# Altium footprint library EIGHT_29.PcbLib: 57 footprints (part 4 of 4)
Each footprint in its own frame and in the unit in brackets; x right, y up, seen from the top. Pads: shape width x height; smd on the part's side, far side on the other; paste and mask are expansions set on the pad; w line width, h text height; cw(c..) or ccw(c..) is an arc to the next point about the centre after c.
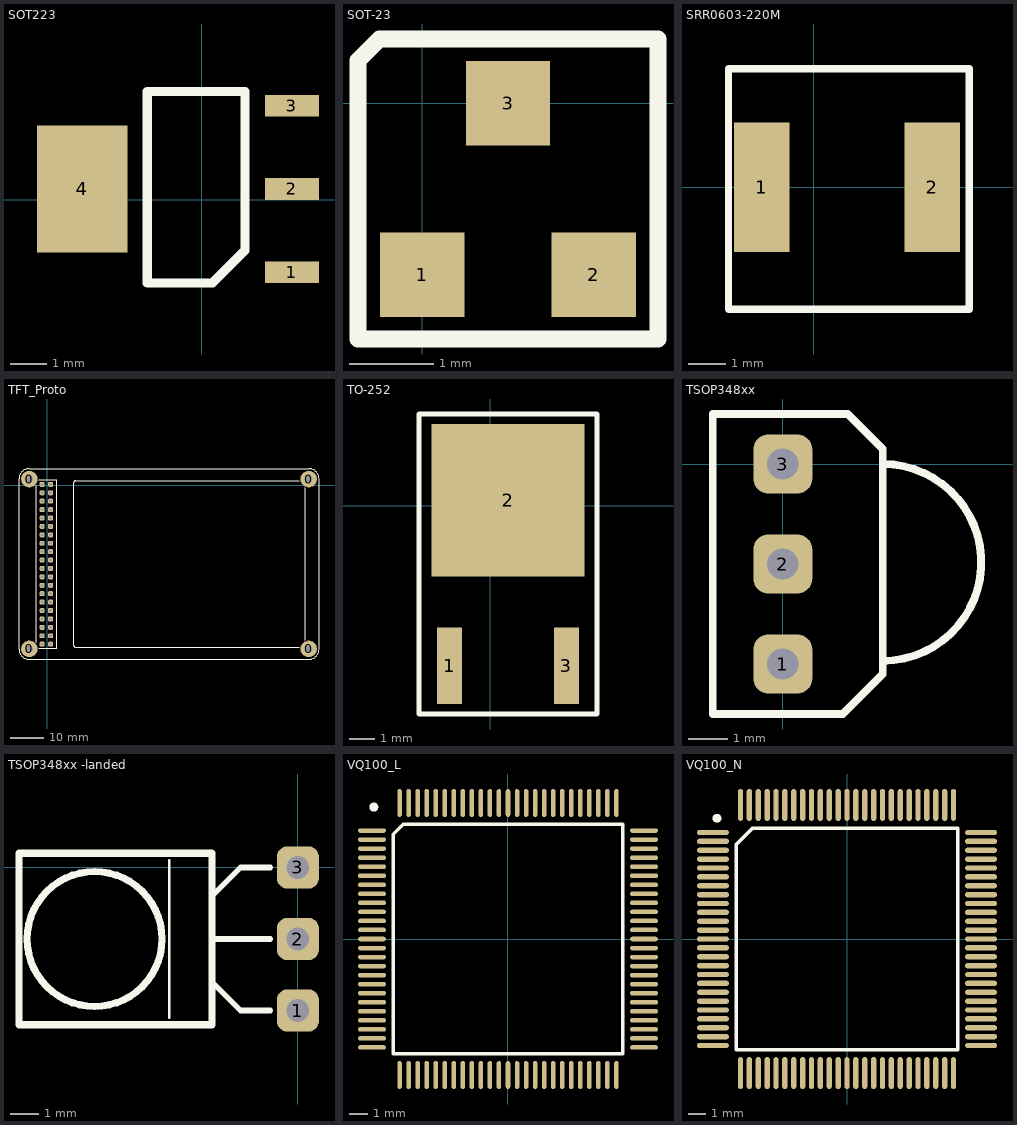
[diagram p3: the footprints below, top view; thin cyan lines are the x and y axes]

## SOT223 [mm] "SOT223"
height 2
pads (4):
  rect 1.5x0.6 smd: 1(2.5,-2) 2(2.5,0.3) 3(2.5,2.6)
  rect 2.5x3.5 smd: 4(-3.3,0.3)
Top Overlay:
  lines w0.254: -1.5,-2.3 -1.5,3 1.2,3 1.2,-1.4 0.3,-2.3 -0.225,-2.3 -0.875,-2.3 -1.5,-2.3

## SOT-23 [mm]
pads (3):
  rect 1x1 smd: 1(0,-2.032) 2(2.032,-2.032) 3(1.016,0)
Top Overlay:
  lines w0.2: -0.762,-2.794 -0.762,0.508 -0.508,0.762 1.262,0.762 2.794,0.762 2.794,-2.794 -0.762,-2.794

## SRR0603-220M [mm]
pads (2):
  rect 1.5x3.5 smd: 1(-1.4,0) 2(3.2,0)
Top Overlay:
  lines w0.2: -2.3,-3.3 -2.3,3.2 0.3,3.2 4.2,3.2 4.2,-3.3 -2.3,-3.3

## TFT_Proto [mm]
pads (44):
  round 5 hole 2.2: 0(-5.4,-49.4) 0(-5.4,1.9) 0(79,-49.4) 0(79,1.9)
  rrect50% 1.5x1.5 hole 0.9: 1(-1.5,0.3) 2(1.04,0.3) 3(-1.5,-2.24) 4(1.04,-2.24) 5(-1.5,-4.78) 6(1.04,-4.78) 7(-1.5,-7.32) 8(1.04,-7.32) 9(-1.5,-9.86) 10(1.04,-9.86) 11(-1.5,-12.4) 12(1.04,-12.4) 13(-1.5,-14.94) 14(1.04,-14.94) 15(-1.5,-17.48) 16(1.04,-17.48) 17(-1.5,-20.02) 18(1.04,-20.02) 19(-1.5,-22.56) 20(1.04,-22.56) 21(-1.5,-25.1) 22(1.04,-25.1) 23(-1.5,-27.64) 24(1.04,-27.64) 25(-1.5,-30.18) 26(1.04,-30.18) 27(-1.5,-32.72) 28(1.04,-32.72) 29(-1.5,-35.26) 30(1.04,-35.26) 31(-1.5,-37.8) 32(1.04,-37.8) 33(-1.5,-40.34) 34(1.04,-40.34) 35(-1.5,-42.88) 36(1.04,-42.88) 37(-1.5,-45.42) 38(1.04,-45.42) 39(-1.5,-47.96) 40(1.04,-47.96)
Top Overlay:
  lines w0.2: -3.405,0 -3.4,-47.5 ; -2.6,-49.23 -0.23,-49.23 2.945,-49.23 2.945,-8.59 2.945,1.697 -2.6,1.697
  lines w0.254: 76.2,-48.9 8.6,-48.9 cw(c8.6,-48.3) 8,-48.3 8,0.8 cw(c8.6,0.8) 8.6,1.4 76.2,1.4 ; 77.9,-46.8 77.9,-0.7 ; 71.4,-52.5 79.1,-52.5 ccw(c79.1,-49.5) 82.1,-49.5 82.1,2 ccw(c79.1,2) 79.1,5 -5.5,5 ccw(c-5.5,2) -8.5,2 -8.5,-49.5 ccw(c-5.5,-49.5) -5.5,-52.5 71.4,-52.5 ; 71.4,-52.5 71.4,-52.5

## TO-252 [mm] "TO252"
pads (3):
  rect 1x3 smd: 1(-1.6,-6.3) 3(3,-6.3)
  rect 6x6 smd: 2(0.7,0.2)
Top Overlay:
  lines w0.2: -2.8,-8.2 4.2,-8.2 4.2,3.6 -1.376,3.6 -2.219,3.6 -2.8,3.6 -2.8,-8.2

## TSOP348xx [mm]
pads (3):
  rrect50% 1.5x1.5 hole 0.8: 1(0,-5.08) 2(0,-2.54) 3(0,0)
Top Overlay:
  lines w0.2: 2.54,-5 ccw(c2.54,-2.5) 2.54,0 ; -1.778,-6.35 1.524,-6.35 2.54,-5.334 2.54,0.381 2.222,0.699 1.968,0.953 1.651,1.27 -1.778,1.27 -1.778,-6.35

## TSOP348xx -landed [mm]
pads (3):
  rrect50% 1.5x1.5 hole 0.8: 1(0,-5.08) 2(0,-2.54) 3(0,0)
Top Overlay:
  circle w0.254: c-7.222,-2.54 r2.396
  lines w0.1: -4.572,-5.334 -4.572,0.254
  lines w0.2: -3.048,-4.064 -2.032,-5.08 -0.976,-5.08 ; -3.048,-2.54 -0.976,-2.54 ; -3.048,-1.016 -2.032,0 -0.976,0
  lines w0.254: -9.906,-5.588 -3.048,-5.588 -3.048,0.508 -9.906,0.508 -9.906,-5.588

## VQ100_L [mm] "100-Pin Very Thin Quad Flat Pack (VQ100), IPC High Density"
height 1.2
pads (100):
  oval 1.55x0.25 smd: 1(-7.525,6) 2(-7.525,5.5) 3(-7.525,5) 4(-7.525,4.5) 5(-7.525,4) 6(-7.525,3.5) 7(-7.525,3) 8(-7.525,2.5) 9(-7.525,2) 10(-7.525,1.5) 11(-7.525,1) 12(-7.525,0.5) 13(-7.525,0) 14(-7.525,-0.5) 15(-7.525,-1) 16(-7.525,-1.5) 17(-7.525,-2) 18(-7.525,-2.5) 19(-7.525,-3) 20(-7.525,-3.5) 21(-7.525,-4) 22(-7.525,-4.5) 23(-7.525,-5) 24(-7.525,-5.5) 25(-7.525,-6) 51(7.525,-6) 52(7.525,-5.5) 53(7.525,-5) 54(7.525,-4.5) 55(7.525,-4) 56(7.525,-3.5) 57(7.525,-3) 58(7.525,-2.5) 59(7.525,-2) 60(7.525,-1.5) 61(7.525,-1) 62(7.525,-0.5) 63(7.525,0) 64(7.525,0.5) 65(7.525,1) 66(7.525,1.5) 67(7.525,2) 68(7.525,2.5) 69(7.525,3) 70(7.525,3.5) 71(7.525,4) 72(7.525,4.5) 73(7.525,5) 74(7.525,5.5) 75(7.525,6)
  oval 0.25x1.55 smd: 26(-6,-7.525) 27(-5.5,-7.525) 28(-5,-7.525) 29(-4.5,-7.525) 30(-4,-7.525) 31(-3.5,-7.525) 32(-3,-7.525) 33(-2.5,-7.525) 34(-2,-7.525) 35(-1.5,-7.525) 36(-1,-7.525) 37(-0.5,-7.525) 38(0,-7.525) 39(0.5,-7.525) 40(1,-7.525) 41(1.5,-7.525) 42(2,-7.525) 43(2.5,-7.525) 44(3,-7.525) 45(3.5,-7.525) 46(4,-7.525) 47(4.5,-7.525) 48(5,-7.525) 49(5.5,-7.525) 50(6,-7.525) 76(6,7.525) 77(5.5,7.525) 78(5,7.525) 79(4.5,7.525) 80(4,7.525) 81(3.5,7.525) 82(3,7.525) 83(2.5,7.525) 84(2,7.525) 85(1.5,7.525) 86(1,7.525) 87(0.5,7.525) 88(0,7.525) 89(-0.5,7.525) 90(-1,7.525) 91(-1.5,7.525) 92(-2,7.525) 93(-2.5,7.525) 94(-3,7.525) 95(-3.5,7.525) 96(-4,7.525) 97(-4.5,7.525) 98(-5,7.525) 99(-5.5,7.525) 100(-6,7.525)
Top Overlay:
  circle w0.25: c-7.425,7.3 r0.125
  lines w0.2: -6.35,-6.35 6.35,-6.35 6.35,6.35 -5.8,6.35 -6.35,5.8 -6.35,-6.35

## VQ100_N [mm] "100-Pin Very Thin Quad Flat Pack (VQ100), IPC Medium Density"
height 1.2
pads (100):
  oval 1.8x0.3 smd: 1(-7.55,6) 2(-7.55,5.5) 3(-7.55,5) 4(-7.55,4.5) 5(-7.55,4) 6(-7.55,3.5) 7(-7.55,3) 8(-7.55,2.5) 9(-7.55,2) 10(-7.55,1.5) 11(-7.55,1) 12(-7.55,0.5) 13(-7.55,0) 14(-7.55,-0.5) 15(-7.55,-1) 16(-7.55,-1.5) 17(-7.55,-2) 18(-7.55,-2.5) 19(-7.55,-3) 20(-7.55,-3.5) 21(-7.55,-4) 22(-7.55,-4.5) 23(-7.55,-5) 24(-7.55,-5.5) 25(-7.55,-6) 51(7.55,-6) 52(7.55,-5.5) 53(7.55,-5) 54(7.55,-4.5) 55(7.55,-4) 56(7.55,-3.5) 57(7.55,-3) 58(7.55,-2.5) 59(7.55,-2) 60(7.55,-1.5) 61(7.55,-1) 62(7.55,-0.5) 63(7.55,0) 64(7.55,0.5) 65(7.55,1) 66(7.55,1.5) 67(7.55,2) 68(7.55,2.5) 69(7.55,3) 70(7.55,3.5) 71(7.55,4) 72(7.55,4.5) 73(7.55,5) 74(7.55,5.5) 75(7.55,6)
  oval 0.3x1.8 smd: 26(-6,-7.55) 27(-5.5,-7.55) 28(-5,-7.55) 29(-4.5,-7.55) 30(-4,-7.55) 31(-3.5,-7.55) 32(-3,-7.55) 33(-2.5,-7.55) 34(-2,-7.55) 35(-1.5,-7.55) 36(-1,-7.55) 37(-0.5,-7.55) 38(0,-7.55) 39(0.5,-7.55) 40(1,-7.55) 41(1.5,-7.55) 42(2,-7.55) 43(2.5,-7.55) 44(3,-7.55) 45(3.5,-7.55) 46(4,-7.55) 47(4.5,-7.55) 48(5,-7.55) 49(5.5,-7.55) 50(6,-7.55) 76(6,7.55) 77(5.5,7.55) 78(5,7.55) 79(4.5,7.55) 80(4,7.55) 81(3.5,7.55) 82(3,7.55) 83(2.5,7.55) 84(2,7.55) 85(1.5,7.55) 86(1,7.55) 87(0.5,7.55) 88(0,7.55) 89(-0.5,7.55) 90(-1,7.55) 91(-1.5,7.55) 92(-2,7.55) 93(-2.5,7.55) 94(-3,7.55) 95(-3.5,7.55) 96(-4,7.55) 97(-4.5,7.55) 98(-5,7.55) 99(-5.5,7.55) 100(-6,7.55)
Top Overlay:
  circle w0.25: c-7.325,6.8 r0.125
  lines w0.2: -6.25,-6.25 -6.25,5.3 -5.3,6.25 6.25,6.25 6.25,-6.25 -6.25,-6.25